# Altium footprint library PCB - LEADED - SOP - MICRON TSOP-54 TG-P 400mil.PcbLib: 1 footprints
Each footprint in its own frame and in the unit in brackets; x right, y up, seen from the top. Pads: shape width x height; smd on the part's side, far side on the other; paste and mask are expansions set on the pad; w line width, h text height; cw(c..) or ccw(c..) is an arc to the next point about the centre after c.
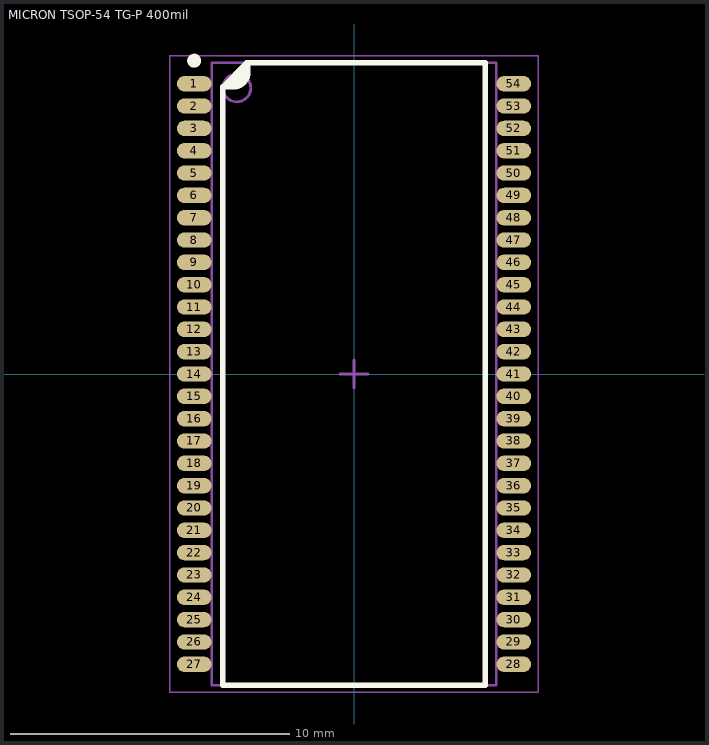
[diagram p0: the footprint, top view; thin cyan lines are the x and y axes]

## MICRON TSOP-54 TG-P 400mil [mm] "TSOP, 54-Leads, Body 22.22x10.16mm, Pitch 0.80mm, IPC Medium Density"
height 1.2
pads (54):
  oval 1.25x0.55 smd: 1(-5.725,10.4) 2(-5.725,9.6) 3(-5.725,8.8) 4(-5.725,8) 5(-5.725,7.2) 6(-5.725,6.4) 7(-5.725,5.6) 8(-5.725,4.8) 9(-5.725,4) 10(-5.725,3.2) 11(-5.725,2.4) 12(-5.725,1.6) 13(-5.725,0.8) 14(-5.725,0) 15(-5.725,-0.8) 16(-5.725,-1.6) 17(-5.725,-2.4) 18(-5.725,-3.2) 19(-5.725,-4) 20(-5.725,-4.8) 21(-5.725,-5.6) 22(-5.725,-6.4) 23(-5.725,-7.2) 24(-5.725,-8) 25(-5.725,-8.8) 26(-5.725,-9.6) 27(-5.725,-10.4) 28(5.725,-10.4) 29(5.725,-9.6) 30(5.725,-8.8) 31(5.725,-8) 32(5.725,-7.2) 33(5.725,-6.4) 34(5.725,-5.6) 35(5.725,-4.8) 36(5.725,-4) 37(5.725,-3.2) 38(5.725,-2.4) 39(5.725,-1.6) 40(5.725,-0.8) 41(5.725,0) 42(5.725,0.8) 43(5.725,1.6) 44(5.725,2.4) 45(5.725,3.2) 46(5.725,4) 47(5.725,4.8) 48(5.725,5.6) 49(5.725,6.4) 50(5.725,7.2) 51(5.725,8) 52(5.725,8.8) 53(5.725,9.6) 54(5.725,10.4)
Top Overlay:
  circle w0.25: c-5.725,11.225 r0.125
  region: -3.836,11.124 -3.836,10.642 -4.192,10.286 -4.7,10.286
  lines w0.2: -4.7,10.286 -4.319,10.286 ccw(c-4.319,10.795) -3.81,10.795 -3.81,11.124 ccw(c-3.836,11.124) -3.836,11.15 ; -4.7,10.286 -3.836,11.15 ; -4.7,10.286 -4.7,-11.15 4.7,-11.15 4.7,11.15 -3.836,11.15
Mechanical 13:
  circle w0.1: c-4.2,10.25 r0.5
  lines w0.1: -5.1,-11.15 -5.1,11.15 5.1,11.15 5.1,-11.15 -5.1,-11.15
Mechanical 15:
  lines w0.05: -6.6,-11.4 -6.6,11.4 6.6,11.4 6.6,-11.4 -6.6,-11.4
Mechanical 2 (Mech9):
  lines w0.1: -0.5,0 0.5,0 ; 0,-0.5 0,0.5
3D body "Micron - TSOP-54.step": height 1.35, standoff 0, extent -5.88,-11.1 5.88,11.1